# Altium schematic symbol library 76825-0002.SchLib: 1 symbol
Pins are listed as number, name and electrical type; pins without a type are passive.

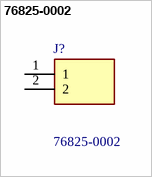
[diagram p0: symbol 76825-0002]

## 76825-0002
designator J?
MOLEX - 76825-0002 - CONNECTOR, HEADER, 2POS, 2ROW, 5.7MM; Geometry.Height: 14mm; Mouser Part Number: 538-76825-0002; Mouser Price/Stock: https://www.mouser.co.uk/ProductDetail/Molex/76825-0002?qs=KpdAywxU011SrMvnYgR78w%3D%3D; Manufacturer_Name: Molex; Manufacturer_Part_Number: 76825-0002; Datasheet Link: https://www.molex.com/pdm_docs/sd/768250002_sd.pdf
footprint 768250002
pins: 1, 2